# Altium footprint library 62000621121.PcbLib: 2 footprints
Each footprint in its own frame and in the unit in brackets; x right, y up, seen from the top. Pads: shape width x height; smd on the part's side, far side on the other; paste and mask are expansions set on the pad; w line width, h text height; cw(c..) or ccw(c..) is an arc to the next point about the centre after c.
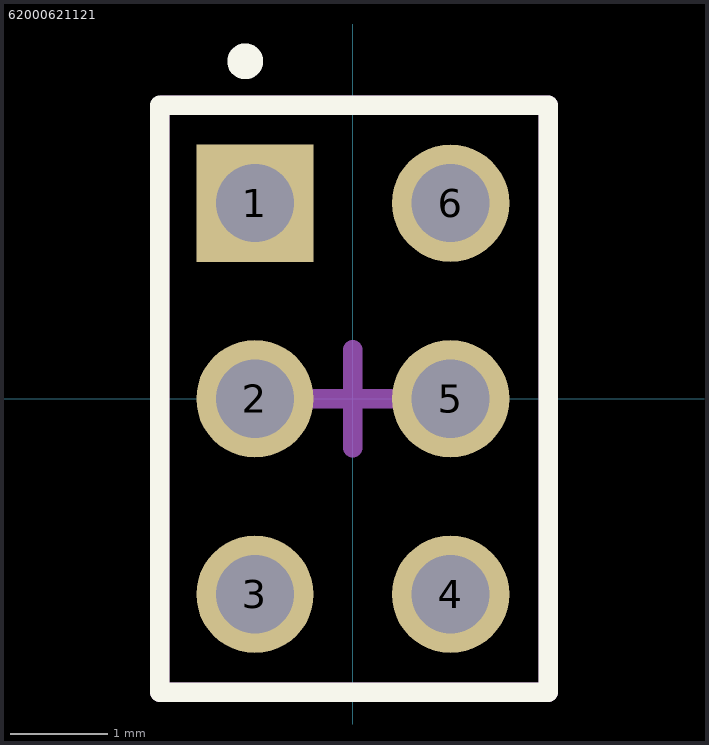
[diagram p0: the footprints below, top view; thin cyan lines are the x and y axes]

## 62000621121 [mm]
pads (6):
  rect 1.2x1.2 hole 0.8: 1(-1,2)
  round 1.2 hole 0.8: 2(-1,0) 3(-1,-2) 4(1,-2) 5(1,0) 6(1,2)
Top Overlay:
  circle w0.254: c-1.1,3.45 r0.056
  lines w0.2: -1.975,-3 -1.975,3 2,3 2,-3 -1.975,-3
Mechanical 13:
  lines w0.2: -1.975,-3 -1.975,2.975 -1.95,3 2,3 2,-3 -1.975,-3
Mechanical 15:
  lines w0.2: -0.5,0 0,0 ; 0,-0.5 0,0 ; 0,0.5 0,0 ; 0.5,0 0,0
3D body "62000621121.stp": height 6.2, standoff -2.5, extent -2,-3 2,3

## PCBComponent_1 [mm]